# Altium footprint library 20682-040E-02.PcbLib: 1 footprints
Each footprint in its own frame and in the unit in brackets; x right, y up, seen from the top. Pads: shape width x height; smd on the part's side, far side on the other; paste and mask are expansions set on the pad; w line width, h text height; cw(c..) or ccw(c..) is an arc to the next point about the centre after c.
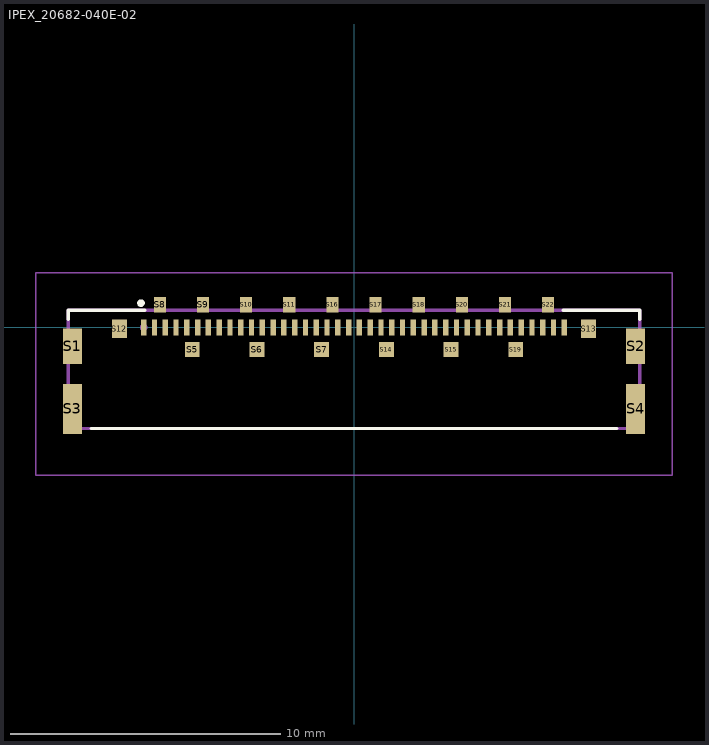
[diagram p0: the footprint, top view; thin cyan lines are the x and y axes]

## IPEX_20682-040E-02 [mm]
pads (62):
  rect 0.2x0.6 smd: 1(-7.8,0) 2(-7.4,0) 3(-7,0) 4(-6.6,0) 5(-6.2,0) 6(-5.8,0) 7(-5.4,0) 8(-5,0) 9(-4.6,0) 10(-4.2,0) 11(-3.8,0) 12(-3.4,0) 13(-3,0) 14(-2.6,0) 15(-2.2,0) 16(-1.8,0) 17(-1.4,0) 18(-1,0) 19(-0.6,0) 20(-0.2,0) 21(0.2,0) 22(0.6,0) 23(1,0) 24(1.4,0) 25(1.8,0) 26(2.2,0) 27(2.6,0) 28(3,0) 29(3.4,0) 30(3.8,0) 31(4.2,0) 32(4.6,0) 33(5,0) 34(5.4,0) 35(5.8,0) 36(6.2,0) 37(6.6,0) 38(7,0) 39(7.4,0) 40(7.8,0)
  rect 0.71x1.3 smd: S1(-10.445,-0.7) S2(10.445,-0.7)
  rect 0.71x1.85 smd: S3(-10.445,-3.025) S4(10.445,-3.025)
  rect 0.55x0.55 smd: S5(-6,-0.825) S6(-3.6,-0.825) S7(-1.2,-0.825) S14(1.2,-0.825) S15(3.6,-0.825) S19(6,-0.825)
  rect 0.45x0.58 smd: S8(-7.2,0.84) S9(-5.6,0.84) S10(-4,0.84) S11(-2.4,0.84) S16(-0.8,0.84) S17(0.8,0.84) S18(2.4,0.84) S20(4,0.84) S21(5.6,0.84) S22(7.2,0.84)
  rect 0.55x0.7 smd: S12(-8.7,-0.05) S13(8.7,-0.05)
Top Overlay:
  circle w0.14: c-7.9,0.9 r0.07
  lines w0.127: -10.6,0.3 -10.6,0.63 -7.75,0.63 ; -9.75,-3.75 9.75,-3.75 ; 7.75,0.63 10.6,0.63 10.6,0.3
Mechanical 13:
  circle w0.14: c-7.8,0 r0.07
  lines w0.127: -10.6,-3.75 10.6,-3.75 10.6,0.63 -10.6,0.63 -10.6,-3.75
Mechanical 15:
  lines w0.05: -11.8,-5.48 11.8,-5.48 11.8,2.02 -11.8,2.02 -11.8,-5.48
3D body "step_temp.STEP": height 0.82, standoff 0, extent -10.6,1.2 10.6,5.93